# EAGLE library part PIC16F886 (library FixLib)
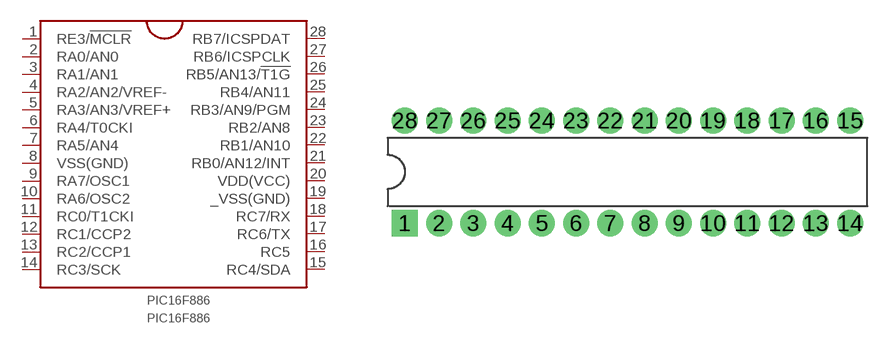
[diagram p0: symbol with the pads of DIL28-3; footprint DIL28-3]

Designator prefix PIC16F886

## PIC16F886  [DIL28-3]
1  RE3/!MCLR
2  RA0/AN0
3  RA1/AN1
4  RA2/AN2/VREF-
5  RA3/AN3/VREF+
6  RA4/T0CKI
7  RA5/AN4
8  VSS(GND)  pwr
9  RA7/OSC1
10  RA6/OSC2
11  RC0/T1CKI
12  RC1/CCP2
13  RC2/CCP1
14  RC3/SCK
15  RC4/SDA
16  RC5
17  RC6/TX
18  RC7/RX
19  _VSS(GND)  pwr
20  VDD(VCC)  pwr
21  RB0/AN12/INT
22  RB1/AN10
23  RB2/AN8
24  RB3/AN9/PGM
25  RB4/AN11
26  RB5/AN13/!T1G
27  RB6/ICSPCLK
28  RB7/ICSPDAT

## Footprint DIL28-3 (pad centres in mm)
Dual In Line package type P
drill 1 pad 1.93 square: 1 -16.51,-3.81
drill 1 pad 1.93: 2 -13.97,-3.81; 3 -11.43,-3.81; 4 -8.89,-3.81; 5 -6.35,-3.81; 6 -3.81,-3.81; 7 -1.27,-3.81; 8 1.27,-3.81; 9 3.81,-3.81; 10 6.35,-3.81; 11 8.89,-3.81; 12 11.43,-3.81; 13 13.97,-3.81; 14 16.51,-3.81; 15 16.51,3.81; 16 13.97,3.81; 17 11.43,3.81; 18 8.89,3.81; 19 6.35,3.81; 20 3.81,3.81; 21 1.27,3.81; 22 -1.27,3.81; 23 -3.81,3.81; 24 -6.35,3.81; 25 -8.89,3.81; 26 -11.43,3.81; 27 -13.97,3.81; 28 -16.51,3.81